# Altium schematic symbol library MUSBRM1C1M0.SchLib: 1 symbol
Pins are listed as number, name and electrical type; pins without a type are passive.

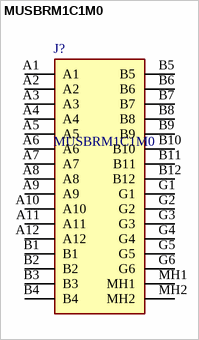
[diagram p0: symbol MUSBRM1C1M0]

## MUSBRM1C1M0
designator J?
Rugged USB Type C, Input Output Connector, IP67, Right Angle, Metric Thread, no dust cover; Manufacturer_Name: Amphenol; Geometry.Height: 9.05mm; Mouser Part Number: 523-MUSBRM1C1M0; Mouser Price/Stock: https://www.mouser.co.uk/ProductDetail/Amphenol-Commercial-Products/MUSBRM1C1M0?qs=z4I1WACWgPTQVfMzr4eSOQ%3D%3D; Manufacturer_Part_Number: MUSBRM1C1M0; Datasheet Link: https://cdn.amphenol-cs.com/media/wysiwyg/files/drawing/musbrm1c1xx.pdf
footprint MUSBRM1C1M0
pins: A1, A2, A3, A4, A5, A6, A7, A8, A9, A10, A11, A12, B1, B2, B3, B4, B5, B6, B7, B8, B9, B10, B11, B12, G1, G2, G3, G4, G5, G6, MH1, MH2